# EAGLE library part MC33993 (library newchips)
Motorola Multiple Switch Detection Interface
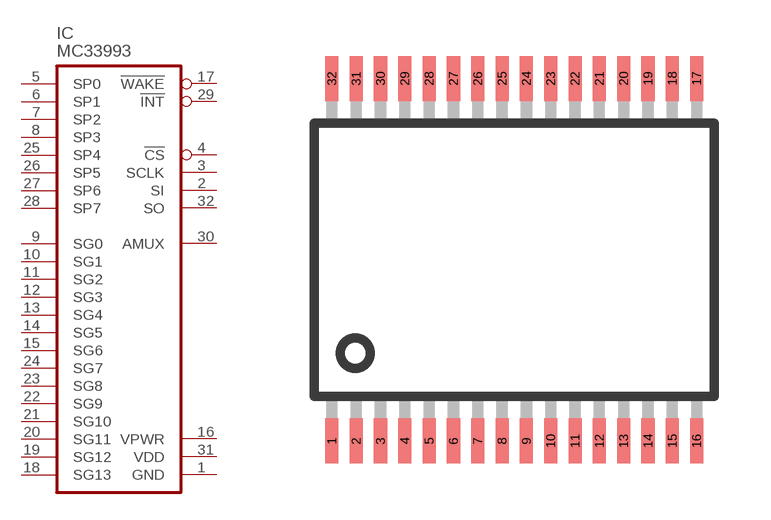
[diagram p17: symbol with the pads of SOICW32; footprint SOICW32]

Designator prefix IC

## MC33993DWB  [SOICW32]
1  GND  pwr
2  SI  in
3  SCLK  in
4  !CS  in
5  SP0  in
6  SP1  in
7  SP2  in
8  SP3  in
9  SG0  in
10  SG1  in
11  SG2  in
12  SG3  in
13  SG4  in
14  SG5  in
15  SG6  in
16  VPWR  pwr
17  !WAKE  oc
18  SG13  in
19  SG12  in
20  SG11  in
21  SG10  in
22  SG9  in
23  SG8  in
24  SG7  in
25  SP4  in
26  SP5  in
27  SP6  in
28  SP7  in
29  !INT  oc
30  AMUX  out
31  VDD  pwr
32  SO  hiz

## Footprint SOICW32 (pad centres in mm)
smd 0.35 x 1.2: 1 -4.875,-4.85; 2 -4.225,-4.85; 3 -3.575,-4.85; 4 -2.925,-4.85; 5 -2.275,-4.85; 6 -1.625,-4.85; 7 -0.975,-4.85; 8 -0.325,-4.85; 9 0.325,-4.85; 10 0.975,-4.85; 11 1.625,-4.85; 12 2.275,-4.85; 13 2.925,-4.85; 14 3.575,-4.85; 15 4.225,-4.85; 16 4.875,-4.85; 17 4.875,4.85; 18 4.225,4.85; 19 3.575,4.85; 20 2.925,4.85; 21 2.275,4.85; 22 1.625,4.85; 23 0.975,4.85; 24 0.325,4.85; 25 -0.325,4.85; 26 -0.975,4.85; 27 -1.625,4.85; 28 -2.275,4.85; 29 -2.925,4.85; 30 -3.575,4.85; 31 -4.225,4.85; 32 -4.875,4.85